# Altium footprint library ANTENNA_F2.PcbLib: 1 footprints
Each footprint in its own frame and in the unit in brackets; x right, y up, seen from the top. Pads: shape width x height; smd on the part's side, far side on the other; paste and mask are expansions set on the pad; w line width, h text height; cw(c..) or ccw(c..) is an arc to the next point about the centre after c.
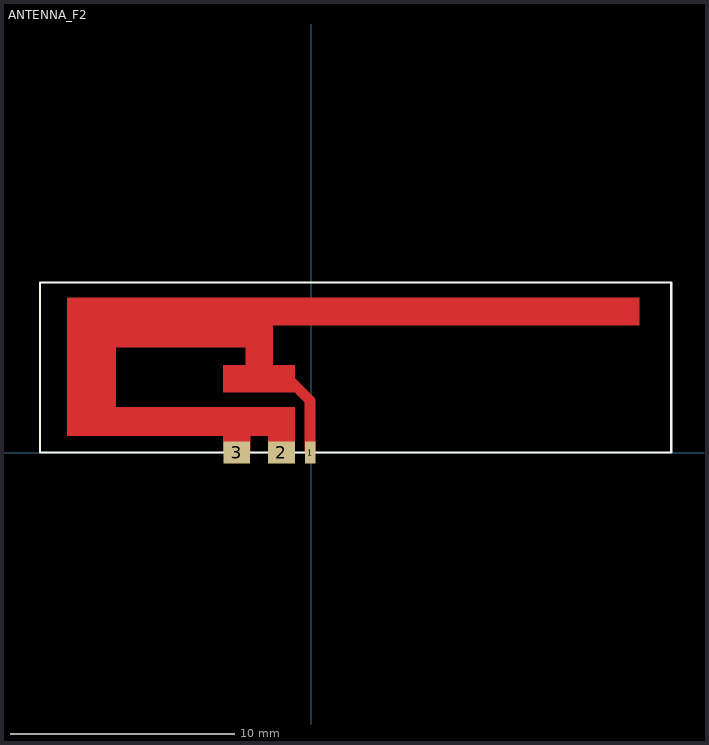
[diagram p0: the footprint, top view; thin cyan lines are the x and y axes]

## ANTENNA_F2 [mm] "2.4GHz inverted F antenna, corrected"
pads (3):
  rect 0.46x1 smd: 1(-0.057,0)
  rect 1.2x1 smd: 2(-1.337,0) 3(-3.337,0)
Top Layer:
  region: -10.917,0.74 -10.917,2.03 -0.737,2.03 -0.737,0.74
  region: -0.737,2.03 -0.737,0 -1.937,0 -1.937,2.03
  region: -2.737,2.03 -2.737,0 -3.937,0 -3.937,2.03
  region: -0.287,0 0.173,0 0.173,2.31 -0.287,2.31
  region: -3.937,2.69 -3.937,3.9 -0.737,3.9 -0.737,2.69
  region: -1.737,6.91 -2.937,6.91 -2.937,2.69 -1.737,2.69
  region: -10.917,6.91 -8.737,6.91 -8.737,0.74 -10.917,0.74
  region: -10.917,6.91 -10.917,5.7 14.663,5.7 14.663,6.91
  region: -10.917,6.91 -10.917,4.7 -1.737,4.7 -1.737,6.91
  lines w0.46: -1.057,3.33 -0.057,2.31
Top Overlay:
  lines w0.1: -12.137,0 -12.137,7.6 -10.917,7.6 16.083,7.6 16.083,0 -12.137,0
Top Solder:
  rectangle: -12.319,-0.508 16.129,7.62